# EAGLE library part ANDS-2610 (library ANDS-2610)
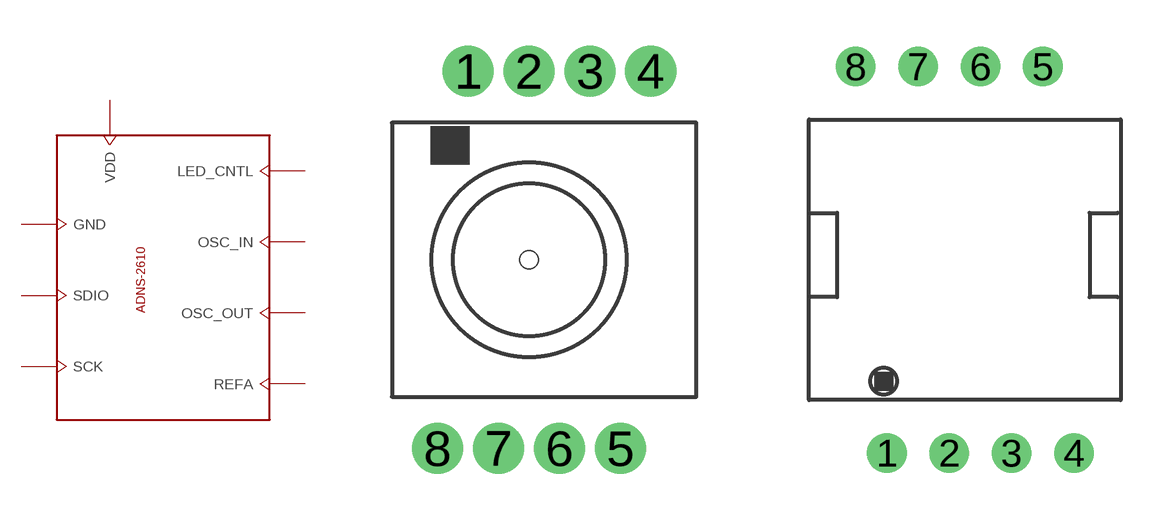
[diagram p0: symbol with the pads of DIP-8; footprints DIP-8, DIP-8_(GORA)]

Designator prefix -

## ANDS-2610  [DIP-8]
1  OSC_IN  out
2  OSC_OUT  in
3  SDIO
4  SCK
5  LED_CNTL  pas
6  GND  sup
7  VDD  sup
8  REFA  oc

## ANDS-2610DIP-8_(GORA)  [DIP-8_(GORA)]
Pads as for DIP-8

## Footprint DIP-8 (pad centres in mm)
drill 0.6 pad 1.676 round: 1 2.5,10.7; 2 4.5,10.7; 3 6.5,10.7; 4 8.5,10.7; 5 7.5,-1.7; 6 5.5,-1.7; 7 3.5,-1.7; 8 1.5,-1.7
hole 0.6 at 4.5,4.5
hole 0.6 at 4.5,4.5

## Footprint DIP-8_(GORA) (pad centres in mm)
drill 0.5 pad 1.27 round: 1 2.5,-1.7; 2 4.5,-1.7; 3 6.5,-1.7; 4 8.5,-1.7; 5 7.5,10.7; 6 5.5,10.7; 7 3.5,10.7; 8 1.5,10.7